# Altium footprint library PCB - CAPACITOR - ALUMINIUM - CAP ALSMD POLY 5.30MM H4.80MM.pcblib: 1 footprints
Each footprint in its own frame and in the unit in brackets; x right, y up, seen from the top. Pads: shape width x height; smd on the part's side, far side on the other; paste and mask are expansions set on the pad; w line width, h text height; cw(c..) or ccw(c..) is an arc to the next point about the centre after c.
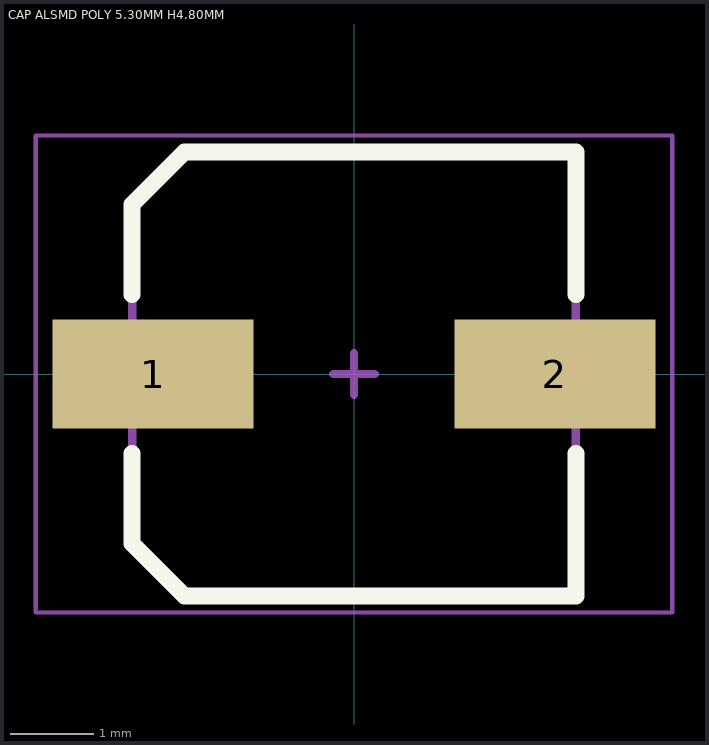
[diagram p0: the footprint, top view; thin cyan lines are the x and y axes]

## CAP ALSMD POLY 5.30MM H4.80MM [mm] "Aluminum SMT Polymer Capacitor, 5.0mm Diameter, 4.80mm Height, 5.90mm Maximum Leads Span"
height 0.65
pads (2):
  rect 2.4x1.3 smd: 1(-2.4,0) 2(2.4,0)
Top Overlay:
  lines w0.2: -2.65,-0.95 -2.65,-2.025 -2.025,-2.65 2.65,-2.65 2.65,-0.95 ; -2.65,0.95 -2.65,2.025 -2.025,2.65 2.65,2.65 2.65,0.95
Mechanical 13:
  lines w0.1: -2.65,-2.025 -2.65,2.025 -2.025,2.65 2.65,2.65 2.65,-2.65 -2.025,-2.65 -2.65,-2.025
Mechanical 15:
  lines w0.05: -3.8,-2.85 -3.8,2.85 3.8,2.85 3.8,-2.85 -3.8,-2.85
  lines w0.1: -0.25,0 0.25,0 ; 0,-0.25 0,0.25
3D body: height 4.8, standoff 0, extent -2.95,-2.65 2.95,2.65